# Altium footprint library STMPS2141STR.PcbLib: 3 footprints
Each footprint in its own frame and in the unit in brackets; x right, y up, seen from the top. Pads: shape width x height; smd on the part's side, far side on the other; paste and mask are expansions set on the pad; w line width, h text height; cw(c..) or ccw(c..) is an arc to the next point about the centre after c.
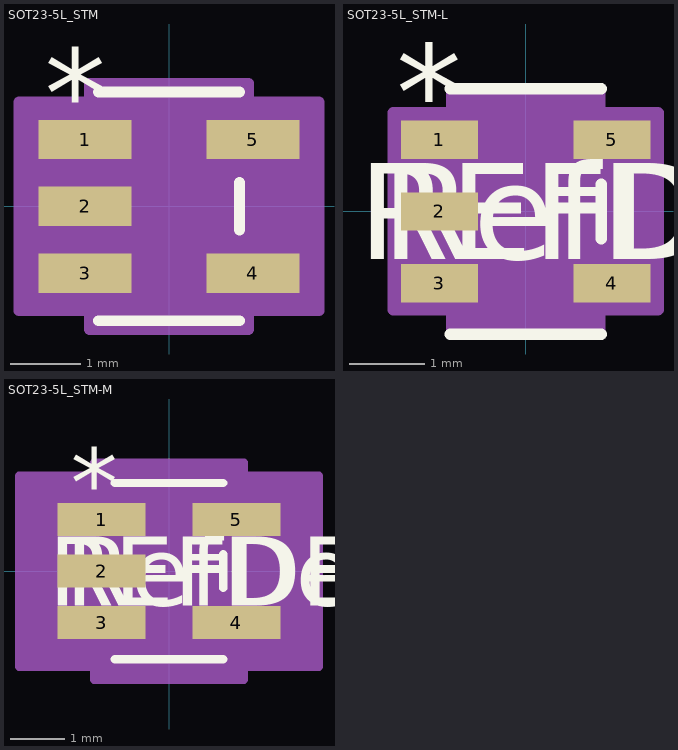
[diagram p0: the footprints below, top view; thin cyan lines are the x and y axes]

## SOT23-5L_STM [mil]
pads (5):
  rect 52x22 smd paste+0 mask+0: 1(-47,37.4) 2(-47,0) 3(-47,-37.4) 4(47,-37.4) 5(47,37.4)
Top Overlay:
  lines w6: -39.5,-64 39.5,-64 ; -39.5,64 39.5,64 ; 39.5,-13.3 39.5,13.3
  text "*" at -69.5,38.4 h50
Mechanical 13:
  lines w1: -59,-47.4 -34.5,-47.4 -34.5,-27.4 -59,-27.4 -59,-47.4 ; -59,-10 -34.5,-10 -34.5,10 -59,10 -59,-10 ; -59,27.4 -34.5,27.4 -34.5,47.4 -59,47.4 -59,27.4 ; -34.5,-59 -34.5,59 34.5,59 34.5,-59 -34.5,-59 ; 34.5,-47.4 59,-47.4 59,-27.4 34.5,-27.4 34.5,-47.4 ; 34.5,27.4 59,27.4 59,47.4 34.5,47.4 34.5,27.4
  text "*" at -37,18.4 h50
Mechanical 15:
  region: 44.5,-69 -44.5,-69 -44.5,-58.4 -84,-58.4 -84,58.4 -44.5,58.4 -44.5,69 44.5,69 44.5,58.4 84,58.4 84,-58.4 44.5,-58.4
  lines w6: -84,-58.4 -84,58.4 -44.5,58.4 -44.5,69 44.5,69 44.5,58.4 84,58.4 84,-58.4 44.5,-58.4 44.5,-69 -44.5,-69 -44.5,-58.4 -84,-58.4
3D body "SOT23-5L_STM.step": height 57.09, standoff 0, extent -59.02,-59.02 59.02,59.02

## SOT23-5L_STM-L [mil]
pads (5):
  rect 40x20 smd paste+0 mask+0: 1(-45,37.4) 2(-45,0) 3(-45,-37.4) 4(45,-37.4) 5(45,37.4)
Top Overlay:
  lines w6: -39.5,-64 39.5,-64 ; -39.5,64 39.5,64 ; 39.5,-14.3 39.5,14.3
  text "REFDES" at -87.5,-25 h50
  text "*" at -67.5,37.4 h50
  text "RefDes" at -75,-25 h50
Mechanical 13:
  lines w1: -59,-47.4 -59,-27.4 -34.5,-27.4 -34.5,-47.4 -59,-47.4 ; -59,-10 -59,10 -34.5,10 -34.5,-10 -59,-10 ; -59,27.4 -59,47.4 -34.5,47.4 -34.5,27.4 -59,27.4 ; -34.5,-59 34.5,-59 34.5,59 -34.5,59 -34.5,-59 ; 34.5,-47.4 34.5,-27.4 59,-27.4 59,-47.4 34.5,-47.4 ; 34.5,27.4 34.5,47.4 59,47.4 59,27.4 34.5,27.4
  text "*" at -37,17.4 h50
  text "RefDes2" at -87.5,-25 h50
Mechanical 15:
  region: 38.5,-63 -38.5,-63 -38.5,-51.4 -69,-51.4 -69,51.4 -38.5,51.4 -38.5,63 38.5,63 38.5,51.4 69,51.4 69,-51.4 38.5,-51.4
  lines w6: -69,-51.4 -38.5,-51.4 -38.5,-63 38.5,-63 38.5,-51.4 69,-51.4 69,51.4 38.5,51.4 38.5,63 -38.5,63 -38.5,51.4 -69,51.4 -69,-51.4
3D body "SOT23-5L_STM.step": height 57.09, standoff 0, extent -59.02,-59.02 59.02,59.02

## SOT23-5L_STM-M [mil]
pads (5):
  rect 64x24 smd paste+0 mask+0: 1(-49,37.4) 2(-49,0) 3(-49,-37.4) 4(49,-37.4) 5(49,37.4)
Top Overlay:
  lines w6: -39.5,-64 39.5,-64 ; -39.5,64 39.5,64 ; 39.5,-12.3 39.5,12.3
  text "REFDES" at -87.5,-25 h50
  text "*" at -71.5,39.4 h50
  text "RefDes" at -75,-25 h50
Mechanical 13:
  lines w1: -59,-47.4 -59,-27.4 -34.5,-27.4 -34.5,-47.4 -59,-47.4 ; -59,-10 -59,10 -34.5,10 -34.5,-10 -59,-10 ; -59,27.4 -59,47.4 -34.5,47.4 -34.5,27.4 -59,27.4 ; -34.5,-59 34.5,-59 34.5,59 -34.5,59 -34.5,-59 ; 34.5,-47.4 34.5,-27.4 59,-27.4 59,-47.4 34.5,-47.4 ; 34.5,27.4 34.5,47.4 59,47.4 59,27.4 34.5,27.4
  text "*" at -37,19.4 h50
  text "RefDes2" at -87.5,-25 h50
Mechanical 15:
  region: 54.5,-79 -54.5,-79 -54.5,-69.4 -109,-69.4 -109,69.4 -54.5,69.4 -54.5,79 54.5,79 54.5,69.4 109,69.4 109,-69.4 54.5,-69.4
  lines w6: -109,-69.4 -54.5,-69.4 -54.5,-79 54.5,-79 54.5,-69.4 109,-69.4 109,69.4 54.5,69.4 54.5,79 -54.5,79 -54.5,69.4 -109,69.4 -109,-69.4
3D body "SOT23-5L_STM.step": height 57.09, standoff 0, extent -59.02,-59.02 59.02,59.02